# Altium schematic symbol library Connectors.SchLib: 13 symbols
Pins are listed as number, name and electrical type; pins without a type are passive.

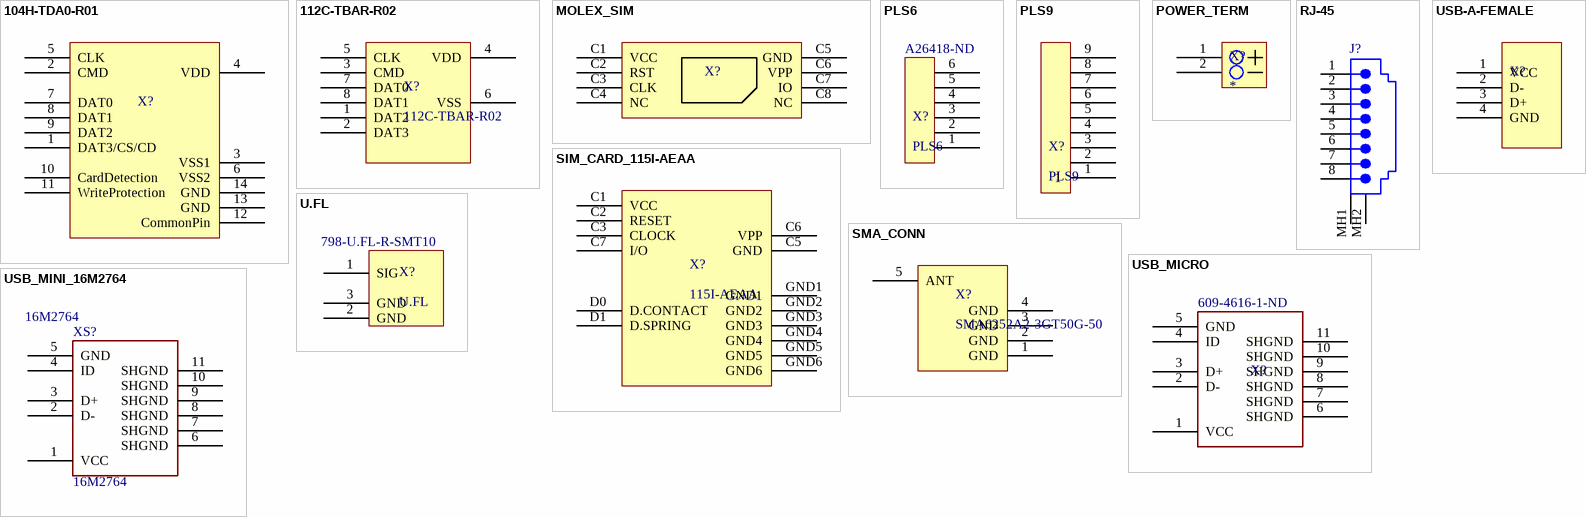
[diagram p0: symbols 104H-TDA0-R01 to USB_MINI_16M2764]

## 104H-TDA0-R01
designator X?  (value not drawn)
Supplier1: www.voelkner.de; Supplier Part Number 1: Y762531
footprint 104H-TDA0-R01 (SD card connector)
pins: 1 DAT3/CS/CD (power), 2 CMD (power), 3 VSS1 (power), 4 VDD (power), 5 CLK (power), 6 VSS2 (power), 7 DAT0 (power), 8 DAT1 (power), 9 DAT2 (power), 10 CardDetection (power), 11 WriteProtection (power), 12 CommonPin (power), 13 GND (power), 14 GND (power)

## 112C-TBAR-R02
designator X?
footprint 112C-TBAR-R02
pins: 1 DAT2, 2 DAT3, 3 CMD, 4 VDD, 5 CLK, 6 VSS, 7 DAT0, 8 DAT1

## MOLEX_SIM
designator X?, comment MOLEX  (value not drawn)
footprint MOLEX-91228-001
pins: C1 VCC (power), C2 RST (power), C3 CLK (power), C4 NC (power), C5 GND (power), C6 VPP (power), C7 IO (power), C8 NC (power)

## PLS6
designator X?  Supplier Part Number 1: A26418-ND
Supplier 1: Digi-Key
footprint PLS6 (2.54 mm Jumper Header)
pins: 1 (power), 2 (power), 3 (power), 4 (power), 5 (power), 6 (power)

## PLS9
designator X?
Supplier 1: Newark; Supplier Part Number 1: 56H1964
footprint PLS9 (2.54 mm Jumper Header)
pins: 1 (power), 2 (power), 3 (power), 4 (power), 5 (power), 6 (power), 7 (power), 8 (power), 9 (power)

## POWER_TERM
designator X?
Supplier 1: Newark; Supplier Part Number 1: 70R0063
footprint PH5 (Phoenix Contact 5.08mm)
pins: 1, 2

## RJ-45
designator J?  (value not drawn)
High-Speed, Vertical, Standard Profile, Internal Shield PCB Jack
footprint RJ-45_PCB
signal-integrity model Modular Jack
pins: 1, 2, 3, 4, 5, 6, 7, 8, MH1 Shield, MH2 Shield

## SIM_CARD_115I-AEAA
designator X?, comment 115I-AEAA
Supplier 1: TME; Supplier Part Number 1: 115I-AEAA
footprint 115I-AEAA (SIM card holder)
pins: C1 VCC, C2 RESET, C3 CLOCK, C5 GND, C6 VPP, C7 I/O, D0 D.CONTACT, D1 D.SPRING, GND1, GND2, GND3, GND4, GND5, GND6

## SMA_CONN
designator X?, comment SMA6252A2-3GT50G-50
Supplier 1: Mouser; Supplier Part Number 1: 523-901-143-6RFX
footprint SMA6252A2-3GT50G-50
pins: 1 GND, 2 GND, 3 GND, 4 GND, 5 ANT

## U.FL
designator X?  Supplier Part Number 1: 798-U.FL-R-SMT10
Supplier 1: Mouser
footprint U.FL (U.FL connector)
pins: 1 SIG, 2 GND, 3 GND

## USB-A-FEMALE
designator X?, comment 743941-da-01  (value not drawn)
footprint USB-A (FEMALE)
pins: 1 VCC (power), 2 D- (power), 3 D+ (power), 4 GND (power)

## USB_MICRO
designator X?, comment Supplier Part Number 1: 609-4616-1-ND  (hidden comment: 10118193-0001LF)
Supplier 1: Digi-Key
footprint USB_MICRO_10118193
pins: 1 VCC, 2 D-, 3 D+, 4 ID, 5 GND, 6 SHGND, 7 SHGND, 8 SHGND, 9 SHGND, 10 SHGND, 11 SHGND

## USB_MINI_16M2764
designator XS?, comment 16M2764
Supplier 1: Newark; Supplier Part Number 1: 16M2764
footprint USB_MINI_16M2764 (USB-06_1800)
pins: 1 VCC, 2 D-, 3 D+, 4 ID, 5 GND, 6 SHGND, 7 SHGND, 8 SHGND, 9 SHGND, 10 SHGND, 11 SHGND